# Altium integrated library 0603ESDA-05N.IntLib: 1 symbol
Pins are listed as number, name and electrical type; pins without a type are passive.

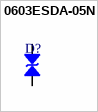
[diagram p0: symbol 0603ESDA-05N]

## 0603ESDA-05N
designator D?, comment ESD Diode  (value not drawn)
Bidirectional - 50V - 5V 0603 ESD Protection Devices ROHS
footprint 0603ESDA-05N (0603 Diode Footprint)
pins: 1, 2